# Altium schematic symbol library Power_Control.SchLib: 1 symbol
Pins are listed as number, name and electrical type; pins without a type are passive.

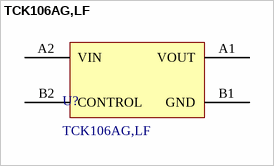
[diagram p0: symbol TCK106AG,LF]

## TCK106AG,LF
designator U?
Power Switch ICs - Power Distribution Load Switch IC; Manufacturer: Toshiba; Current Output: 1 A; PSRR: - 70 dB; Rated Current: 90 uA; Voltage Input Maximum: 5.5V; Voltage Input Minimum: 1.1V; Voltage Output: 5V; Off time: 5 us; On Resistor: 55 mOhms; On time: 305 us; Pd - Power Dissipation: 800 mW; Manufacturer Part Number: TCK106AG,LF; Packaging: Tape and Reel; Product: LDO Voltage Regulators; Supplier 1 URL: https://www.mouser.vn/ProductDetail/Toshiba/TCK106AGLF?qs=lX6dEUlT%252BgdlAjab8mTlWw%3D%3D; Supplier 2 URL: https://www.digikey.com/en/products/detail/toshiba-semiconductor-and-storage/TCK106AG-LF/5409248; Supplier 3 URL: N/A; Value: TCK106AG,LF; Mount: SMD/SMT; Operating Temperature Max: + 85 C; Operating Temperature Min: - 40 C; Package / Case: BGA; Supplier 1: Mouser; Supplier 1 Part Number: 757-TCK106AGLF; Supplier 2: Digi-Key; Supplier 2 Part Number: TCK106AGLFTR-ND; Supplier 3: thegioiic; Supplier 3 Part Number: N/A; ComponentLink1Description: Datasheet; ComponentLink1URL: https://www.mouser.vn/datasheet/2/408/TCK106AG_datasheet_en_20151005-1916439.pdf
footprint TCK106AG,LF (BGA, 4-Leads, Body 0.79x0.79mmx0.35mm, Pitch 0.40mm)
pins: A1 VOUT, A2 VIN, B1 GND, B2 CONTROL